# EAGLE library part IF_RS232_XCVR_MAX3232E (library !GPLIB_ACTIVE)
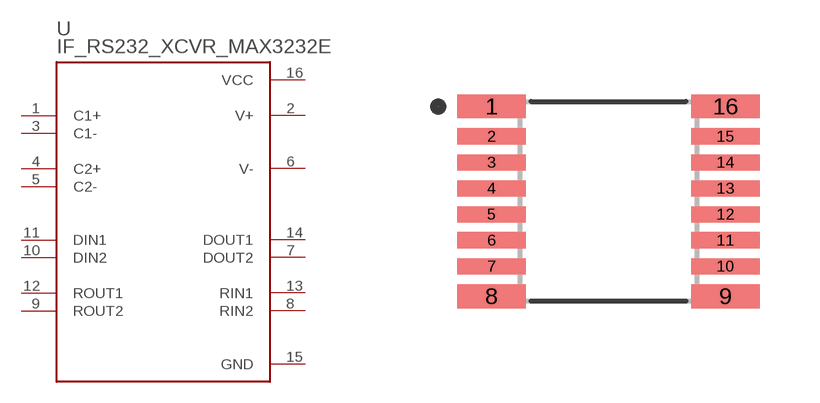
[diagram p67: symbol with the pads of TSSOP_16P; footprint TSSOP_16P]

Designator prefix U

## IF_RS232_XCVR_MAX3232E_MAX3232ECPWR  [TSSOP_16P]
1  C1+  pas
2  V+  out
3  C1-  pas
4  C2+  pas
5  C2-  pas
6  V-  out
7  DOUT2  out
8  RIN2  in
9  ROUT2  out
10  DIN2  in
11  DIN1  in
12  ROUT1  out
13  RIN1  in
14  DOUT1  out
15  GND  pwr
16  VCC  pwr

## Footprint TSSOP_16P (pad centres in mm)
smd 1.7 x 0.6: 1 -2.925,2.375; 8 -2.925,-2.375; 9 2.925,-2.375; 16 2.925,2.375
smd 1.7 x 0.4: 2 -2.925,1.625; 3 -2.925,0.975; 4 -2.925,0.325; 5 -2.925,-0.325; 6 -2.925,-0.975; 7 -2.925,-1.625; 10 2.925,-1.625; 11 2.925,-0.975; 12 2.925,-0.325; 13 2.925,0.325; 14 2.925,0.975; 15 2.925,1.625